# Altium footprint library Diode.PcbLib: 10 footprints
Each footprint in its own frame and in the unit in brackets; x right, y up, seen from the top. Pads: shape width x height; smd on the part's side, far side on the other; paste and mask are expansions set on the pad; w line width, h text height; cw(c..) or ccw(c..) is an arc to the next point about the centre after c.
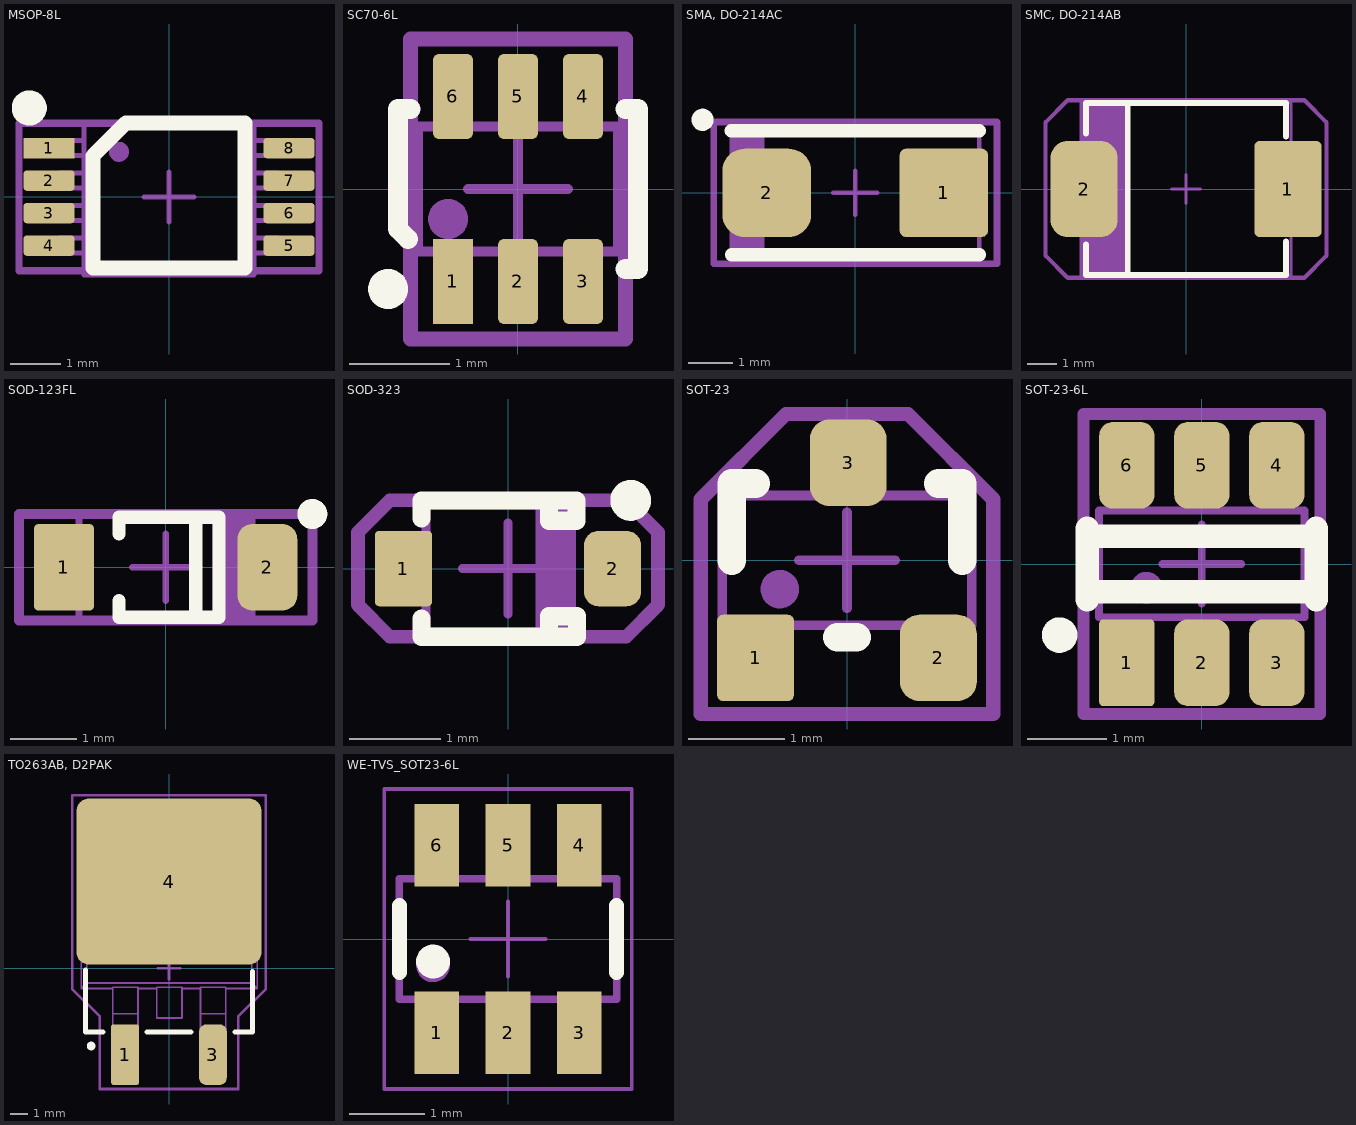
[diagram p0: the footprints below, top view; thin cyan lines are the x and y axes]

## MSOP-8L [mm] "MSOP-8L, 8-Leads, Body 5x3mm, Pitch 0.5mm"
height 0.975
pads (8):
  rect 1.016x0.406 smd: 1(-2.4,0.975)
  rrect30% 1.016x0.406 smd: 2(-2.4,0.325) 3(-2.4,-0.325) 4(-2.4,-0.975) 5(2.4,-0.975) 6(2.4,-0.325) 7(2.4,0.325) 8(2.4,0.975)
Top Overlay:
  circle w0.5: c-2.794,1.778 r0.1
  lines w0.3: -1.524,-1.425 -1.524,0.815 -0.864,1.475 1.524,1.475 1.524,-1.425 -1.524,-1.425
Mechanical 13:
  circle w0.2: c-1,0.9 r0.1
  lines w0.1: -1.7,-1.125 -2.175,-1.125 -2.175,-0.825 -1.7,-0.825 ; -1.7,-0.475 -2.175,-0.475 -2.175,-0.175 -1.7,-0.175 ; -1.7,0.175 -2.175,0.175 -2.175,0.475 -1.7,0.475 ; -1.7,0.825 -2.175,0.825 -2.175,1.125 -1.7,1.125 ; 1.7,-1.125 2.175,-1.125 2.175,-0.825 1.7,-0.825 ; 1.7,-0.475 2.175,-0.475 2.175,-0.175 1.7,-0.175 ; 1.7,0.175 2.175,0.175 2.175,0.475 1.7,0.475 ; 1.7,0.825 2.175,0.825 2.175,1.125 1.7,1.125 ; -1.7,-1.564 -1.7,1.475 1.7,1.475 1.7,-1.564 -1.7,-1.564
Mechanical 15:
  lines w0.1: -0.5,0 0.5,0 ; 0,-0.5 0,0.5
  lines w0.15: -3,-1.475 -3,1.475 3,1.475 3,-1.475 -3,-1.475
Mechanical 17:
  text ".Designator" at -0.346,-0.162 h1
3D body "WE-TVS_Super_Speed_MSOP-8L.stp": height 0.94, standoff -0.04, extent -2.45,-1.5 2.45,1.5

## SC70-6L [mm] "TVS Diode, package SC70-6L"
height 1.1
pads (6):
  rect 0.4x0.85 smd: 1(-0.65,-0.925)
  rrect30% 0.4x0.85 smd: 2(0,-0.925) 3(0.65,-0.925) 4(0.65,0.925) 5(0,0.925) 6(-0.65,0.925)
Top Overlay:
  circle w0.2: c-1.3,-1 r0.1
  lines w0.2: -1.075,0.8 -1.2,0.8 -1.2,-0.4 -1.1,-0.5 ; 1.075,-0.8 1.2,-0.8 1.2,0.8 1.075,0.8 ; -1.1,-0.5 -1.1,-0.5
Mechanical 13:
  circle w0.2: c-0.7,-0.3 r0.1
  lines w0.1: -0.8,-0.625 -0.8,-1.1 -0.5,-1.1 -0.5,-0.625 ; -0.8,0.625 -0.8,1.1 -0.5,1.1 -0.5,0.625 ; -0.15,-0.625 -0.15,-1.1 0.15,-1.1 0.15,-0.625 ; -0.15,0.625 -0.15,1.1 0.15,1.1 0.15,0.625 ; 0.5,-0.625 0.5,-1.1 0.8,-1.1 0.8,-0.625 ; 0.5,0.625 0.5,1.1 0.8,1.1 0.8,0.625 ; -1,-0.625 1,-0.625 1,0.625 -1,0.625 -1,-0.625
Mechanical 15:
  lines w0.1: -0.5,0 0.5,0 ; 0,-0.5 0,0.5
  lines w0.15: -1.075,-1.5 1.075,-1.5 1.075,1.5 -1.075,1.5 -1.075,-1.5
Mechanical 17:
  text ".Designator" at -0.346,-0.162 h1
3D body "STEP-WE-TVS-HS-SC70-6L-rev1.stp": height 1, standoff 0, extent -1,-1.1 1,1.1

## SMA, DO-214AC [mm] "Case 403D-02"
height 2.41
pads (2):
  rrect15% 2x2 smd: 1(2,0)
  rrect50% 2x2 smd: 2(-2,0)
Top Overlay:
  circle w0.25: c-3.45,1.65 r0.125
  lines w0.3: -2.8,1.4 2.8,1.4 ; -2.795,-1.4 2.805,-1.4
Mechanical 13:
  rectangle: -2.797,-1.461 -2.045,1.459
  lines w0.1: -2.795,-1.46 2.795,-1.46 2.795,1.46 -2.795,1.46 -2.795,-1.46
Mechanical 15:
  lines w0.1: -0.5,0 0.5,0 ; 0,-0.5 0,0.5
  lines w0.15: -3.2,-1.6 3.2,-1.6 3.2,1.6 -3.2,1.6 -3.2,-1.6
Mechanical 17:
  text ".Designator" at -0.346,-0.162 h1
3D body "DO-214-SMA.step": height 2.4, standoff 0, extent -2.6,-1.295 2.6,1.305

## SMC, DO-214AB [mm] "WE-TVSP Power TVS Diode, DO-214AB, Unidirectional"
height 2.5
pads (2):
  rrect15% 2.3x3.3 smd: 1(3.5,0)
  rrect50% 2.3x3.3 smd: 2(-3.5,0)
Top Overlay:
  lines w0.2: -3.43,-1.9 -3.43,-2.95 3.43,-2.95 3.43,-1.8 ; -3.43,1.9 -3.43,2.95 3.43,2.95 3.43,1.8 ; -2,-2.95 -2,2.95
Mechanical 13:
  rectangle: -3.602,-2.95 -2,2.949
  lines w0.1: -3.6,-2.95 -3.6,2.95 3.6,2.95 3.6,-2.95 -3.6,-2.95
Mechanical 15:
  lines w0.1: -0.5,0 0.5,0 ; 0,-0.5 0,0.5
  lines w0.15: -4.826,-2.286 -4.064,-3.048 4.064,-3.048 4.826,-2.286 4.826,2.286 4.064,3.048 -4.064,3.048 -4.826,2.286 -4.826,-2.286
Mechanical 17:
  text ".Designator" at -0.346,-0.162 h1.5
3D body "DO-214AB_Unidirectional.stp": height 2.5, standoff 0.01, extent -3.97,-2.952 3.97,2.953

## SOD-123FL [mm] "SOD-123FL"
height 0.8
pads (2):
  rrect15% 0.9x1.3 smd: 1(-1.525,0)
  rrect50% 0.9x1.3 smd: 2(1.525,0)
Top Overlay:
  circle w0.25: c2.2,0.8 r0.1
  lines w0.2: -0.7,-0.5 -0.7,-0.75 0.8,-0.75 0.8,0.75 -0.7,0.75 -0.7,0.5 ; 0.45,-0.75 0.45,0.75
Mechanical 13:
  region: 1.302,0.8 0.7,0.8 0.7,-0.799 1.302,-0.799
  lines w0.1: -1.3,-0.8 -1.3,0.8 1.3,0.8 1.3,-0.8 -1.3,-0.8
Mechanical 15:
  lines w0.1: -0.5,0 0.5,0 ; 0,-0.5 0,0.5
  lines w0.15: -2.2,-0.8 2.2,-0.8 2.2,0.8 -2.2,0.8 -2.2,-0.8
Mechanical 17:
  text ".Designator" at -0.346,-0.162 h1
3D body "SOD-123FL Case498.step": height 0.95, standoff 0, extent -1.8,-0.825 1.8,0.825

## SOD-323 [mm] "SOD-323/SC-76; 2 Leads; Body 1.7 x 1.3 mm, (LxW)"
height 1.2
pads (2):
  rrect15% 0.63x0.83 smd: 1(-1.15,0)
  rrect50% 0.63x0.83 smd: 2(1.15,0)
Top Overlay:
  circle w0.25: c1.35,0.75 r0.1
  lines w0.2: -0.95,-0.55 -0.95,-0.75 0.761,-0.75 0.761,-0.525 0.45,-0.525 0.45,-0.75 ; -0.95,0.55 -0.95,0.75 0.754,0.75 0.754,0.525 0.45,0.525 0.45,0.75
Mechanical 13:
  region: 0.702,0.7 0.3,0.7 0.3,-0.699 0.702,-0.699
  lines w0.1: -0.9,-0.7 0.7,-0.7 0.7,0.7 -0.9,0.7 -0.9,-0.7
Mechanical 15:
  lines w0.1: -0.5,0 0.5,0 ; 0,-0.5 0,0.5
  lines w0.15: -1.65,-0.4 -1.3,-0.75 1.3,-0.75 1.65,-0.4 1.65,0.4 1.3,0.75 -1.3,0.75 -1.65,0.4 -1.65,-0.4
Mechanical 17:
  text ".Designator" at -0.346,-0.162 h1
3D body "SOD-323.step": height 1.1, standoff 0, extent -1.35,-0.625 1.35,0.625

## SOT-23 [mm]
height 1.2
pads (3):
  rrect15% 0.8x0.9 smd: 1(-0.953,-1.016)
  rrect50% 0.8x0.9 smd: 2(0.953,-1.016) 3(0.013,1.016)
Top Overlay:
  lines w0.3: -1.2,0 -1.2,0.8 -0.953,0.8 ; -0.1,-0.8 0.1,-0.8 ; 0.953,0.8 1.2,0.8 1.2,0
Mechanical 13:
  circle w0.2: c-0.7,-0.3 r0.1
  lines w0.1: -1.1,-0.675 -1.1,-1.125 -0.8,-1.125 -0.8,-0.675 ; -0.1,0.675 -0.1,1.126 0.2,1.126 0.2,0.675 ; 0.8,-0.675 0.8,-1.125 1.1,-1.125 1.1,-0.675 ; -1.3,-0.675 1.3,-0.675 1.3,0.675 -1.3,0.675 -1.3,-0.675
Mechanical 15:
  lines w0.1: -0.5,0 0.5,0 ; 0,-0.5 0,0.5
  lines w0.15: -1.524,-1.6 -1.524,0.635 -0.635,1.524 0.635,1.524 1.524,0.635 1.524,-1.6 -1.524,-1.6
Mechanical 17:
  text ".Designator" at -0.346,-0.162 h1
3D body "sot23.STEP": height 1.22, standoff 0, extent -1.5,-1.125 1.5,1.126

## SOT-23-6L [mm]
height 1.2
pads (6):
  rrect15% 0.7x1.1 smd: 1(-0.95,-1.25)
  rrect50% 0.7x1.1 smd: 2(0,-1.25) 3(0.95,-1.25) 4(0.95,1.25) 5(0,1.25) 6(-0.95,1.25)
Top Overlay:
  circle w0.25: c-1.8,-0.9 r0.1
  lines w0.3: -1.45,-0.45 -1.45,0.45 ; -1.45,-0.35 1.45,-0.35 ; -1.45,0.35 1.45,0.35 ; 1.45,-0.45 1.45,0.45
Mechanical 13:
  circle w0.2: c-0.7,-0.3 r0.1
  lines w0.1: -1.1,-0.675 -1.1,-1.125 -0.8,-1.125 -0.8,-0.675 ; -1.1,0.675 -1.1,1.125 -0.8,1.125 -0.8,0.675 ; -0.2,-0.675 -0.2,-1.126 0.1,-1.126 0.1,-0.675 ; -0.1,0.675 -0.1,1.126 0.2,1.126 0.2,0.675 ; 0.8,-0.675 0.8,-1.125 1.1,-1.125 1.1,-0.675 ; 0.8,0.675 0.8,1.125 1.1,1.125 1.1,0.675 ; -1.3,-0.675 -1.3,0.675 1.3,0.675 1.3,-0.675 -1.3,-0.675
Mechanical 15:
  lines w0.1: -0.5,0 0.5,0 ; 0,-0.5 0,0.5
  lines w0.15: -1.5,-1.9 -1.5,1.9 1.5,1.9 1.5,-1.9 -1.5,-1.9
Mechanical 17:
  text ".Designator" at -0.346,-0.162 h1
3D body "STEP-WE-TVS-SS-SOT23-6L-rev1.stp": height 1.16, standoff 0, extent -1.45,-1.4 1.45,1.4

## TO263AB, D2PAK [mm]
height 4.8
pads (3):
  rrect15% 1.6x3.5 smd: 1(-2.54,-5)
  rrect50% 1.6x3.5 smd: 3(2.54,-5)
  rrect15% 10.7x9.6 smd: 4(0,5)
Top Overlay:
  circle w0.25: c-4.5,-4.5 r0.125
  lines w0.3: -4.826,-0.1 -4.826,-3.683 -3.81,-3.683 ; -1.27,-3.683 1.27,-3.683 ; 3.81,-3.683 4.826,-3.683 4.826,-0.2
Mechanical 13:
  circle w0.2: c-4.5,-4.5 r0.1
  lines w0.1: -5.065,-1.173 -3.255,-1.173 -5.065,-1.173 ; -5.065,-1.173 -5.065,7.842 ; -5.065,-1.173 -4.751,-0.859 ; -5.065,-1.173 -5.065,7.842 ; -5.065,-1.173 -4.751,-0.859 ; -5.065,7.842 -4.935,7.972 ; -5.065,7.842 -4.751,7.528 ; -5.065,7.842 -4.935,7.972 ; -5.065,7.842 -4.751,7.528 ; -4.935,7.972 -4.935,8.316 ; -4.935,7.972 4.965,7.972 ; -4.935,7.972 -4.935,8.316 ; -4.935,7.972 4.965,7.972 ; -4.935,8.316 -3.435,9.182 ; -4.935,8.316 -3.435,9.182 ; -4.751,-0.859 4.781,-0.859 ; -4.751,-0.859 -4.751,7.528 ; -4.751,-0.859 4.781,-0.859 ; -4.751,-0.859 -4.751,7.528 ; -4.751,7.528 4.781,7.528 ; -4.751,7.528 4.781,7.528 ; -3.435,9.182 3.465,9.182 ; -3.435,9.182 3.465,9.182 ; -3.255,-3.716 -3.255,-3.4 ; -3.255,-3.716 -2.9,-3.716 ; -3.255,-3.716 -3.255,-3.4 ; -3.255,-3.716 -2.9,-3.716 ; -3.255,-3.4 -1.795,-3.4 ; -3.255,-3.4 -3.255,-2.639 ; -3.255,-3.4 -1.795,-3.4 ; -3.255,-3.4 -3.255,-2.639 ; -3.255,-2.639 -1.795,-2.639 ; -3.255,-2.639 -3.255,-1.103 ; -3.255,-2.639 -1.795,-2.639 ; -3.255,-2.639 -3.255,-1.103 ; -3.255,-1.103 -1.795,-1.103 ; -3.255,-1.103 -1.795,-1.103 ; -2.9,-6.082 -2.9,-6.045 ; -2.9,-6.082 -2.15,-6.082 ; -2.9,-6.082 -2.9,-6.045 ; -2.9,-6.082 -2.15,-6.082 ; -2.9,-6.045 -2.9,-4.305 ; -2.9,-6.045 -2.15,-6.045 ; -2.9,-6.045 -2.9,-4.305 ; -2.9,-6.045 -2.15,-6.045 ; -2.9,-4.305 -2.15,-4.305 ; -2.9,-4.305 -2.9,-4.032 ; -2.9,-4.305 -2.15,-4.305 ; -2.9,-4.305 -2.9,-4.032 ; -2.9,-4.032 -2.15,-4.032 ; -2.9,-4.032 -2.9,-3.716 ; -2.9,-4.032 -2.15,-4.032 ; -2.9,-4.032 -2.9,-3.716 ; -2.15,-6.082 -2.15,-6.045 ; -2.15,-6.082 -2.15,-6.045 ; -2.15,-6.045 -2.15,-4.305 ; -2.15,-6.045 -2.15,-4.305 ; -2.15,-4.305 -2.15,-4.032 ; -2.15,-4.305 -2.15,-4.032 ; -2.15,-4.032 -2.15,-3.716 ; -2.15,-4.032 -2.15,-3.716 ; -2.15,-3.716 -1.795,-3.716 ; -2.15,-3.716 -1.795,-3.716 ; -1.795,-3.716 -1.795,-3.4 ; -1.795,-3.716 -1.795,-3.4 ; -1.795,-3.4 -1.795,-2.639 ; -1.795,-3.4 -1.795,-2.639 ; -1.795,-2.639 -1.795,-1.103 ; -1.795,-2.639 -1.795,-1.103 ; -0.715,-2.883 -0.715,-1.103 ; -0.715,-2.883 0.745,-2.883 ; -0.715,-2.883 -0.715,-1.103 ; -0.715,-2.883 0.745,-2.883 ; -0.715,-1.103 0.745,-1.103 ; -0.715,-1.103 0.745,-1.103 ; 0.745,-2.883 0.745,-1.103 ; 0.745,-2.883 0.745,-1.103 ; 1.825,-3.716 1.825,-3.4 ; 1.825,-3.716 2.18,-3.716 ; 1.825,-3.716 1.825,-3.4 ; 1.825,-3.716 2.18,-3.716 ; 1.825,-3.4 3.285,-3.4 ; 1.825,-3.4 1.825,-2.639 ; 1.825,-3.4 3.285,-3.4 ; 1.825,-3.4 1.825,-2.639 ; 1.825,-2.639 3.285,-2.639 ; 1.825,-2.639 1.825,-1.103 ; 1.825,-2.639 3.285,-2.639 ; 1.825,-2.639 1.825,-1.103 ; 1.825,-1.103 3.285,-1.103 ; 1.825,-1.103 3.285,-1.103 ; 2.18,-6.082 2.18,-6.045 ; 2.18,-6.082 2.93,-6.082 ; 2.18,-6.082 2.18,-6.045 ; 2.18,-6.082 2.93,-6.082 ; 2.18,-6.045 2.18,-4.305 ; 2.18,-6.045 2.93,-6.045 ; 2.18,-6.045 2.18,-4.305 ; 2.18,-6.045 2.93,-6.045 ; 2.18,-4.305 2.93,-4.305 ; 2.18,-4.305 2.18,-4.032 ; 2.18,-4.305 2.93,-4.305 ; 2.18,-4.305 2.18,-4.032 ; 2.18,-4.032 2.93,-4.032 ; 2.18,-4.032 2.18,-3.716 ; 2.18,-4.032 2.93,-4.032 ; 2.18,-4.032 2.18,-3.716 ; 2.93,-6.082 2.93,-6.045 ; 2.93,-6.082 2.93,-6.045 ; 2.93,-6.045 2.93,-4.305 ; 2.93,-6.045 2.93,-4.305 ; 2.93,-4.305 2.93,-4.032 ; 2.93,-4.305 2.93,-4.032 ; 2.93,-4.032 2.93,-3.716 ; 2.93,-4.032 2.93,-3.716 ; 2.93,-3.716 3.285,-3.716 ; 2.93,-3.716 3.285,-3.716 ; 3.285,-3.716 3.285,-3.4 ; 3.285,-3.716 3.285,-3.4 ; 3.285,-3.4 3.285,-2.639 ; 3.285,-3.4 3.285,-2.639 ; 3.285,-2.639 3.285,-1.103 ; 3.285,-2.639 3.285,-1.103 ; 3.465,9.182 4.965,8.316 ; 3.465,9.182 4.965,8.316 ; 4.781,-0.859 4.781,7.528 ; 4.781,-0.859 5.095,-1.173 ; 4.781,-0.859 4.781,7.528 ; 4.781,-0.859 5.095,-1.173 ; 4.781,7.528 5.095,7.842 ; 4.781,7.528 5.095,7.842 ; 4.965,7.972 4.965,8.316 ; 4.965,7.972 5.095,7.842 ; 4.965,7.972 4.965,8.316 ; 4.965,7.972 5.095,7.842 ; 5.095,-1.173 3.285,-1.173 5.095,-1.173 ; 5.095,-1.173 5.095,7.842 ; 5.095,-1.173 5.095,7.842 ; -1.795,-1.173 -0.715,-1.173 -1.795,-1.173 ; 0.745,-1.173 1.825,-1.173 0.745,-1.173
Mechanical 15:
  lines w0.15: -0.635,0 0.635,0 ; 0,-0.635 0,0.635 ; -5.6,-1.2 -4,-2.8 -4,-6.985 4,-6.985 4,-2.8 5.6,-1.2 5.6,10 -5.6,10 -5.6,-1.2
Mechanical 17:
  text ".Designator" at -0.346,-0.162 h1.5
3D body "to-263.STEP": height 4.3, standoff 0, extent -5.047,-6.635 4.953,9.245

## WE-TVS_SOT23-6L [mm] "TVS Diode, package SOT23-6L"
height 1.2
pads (6):
  rect 0.6x1.1 smd: 1(-0.95,-1.25) 2(0,-1.25) 3(0.95,-1.25) 4(0.95,1.25) 5(0,1.25) 6(-0.95,1.25)
Top Overlay:
  circle w0.25: c-1,-0.3 r0.1
  lines w0.2: -1.45,-0.45 -1.45,0.45 ; 1.45,-0.45 1.45,0.45
Mechanical 13:
  circle w0.25: c-1,-0.35 r0.1
  lines w0.1: -1.15,-0.8 -1.15,-1.4 -0.75,-1.4 -0.75,-0.8 ; -1.15,0.8 -1.15,1.4 -0.75,1.4 -0.75,0.8 ; -0.2,-0.8 -0.2,-1.4 0.2,-1.4 0.2,-0.8 ; -0.2,0.8 -0.2,1.4 0.2,1.4 0.2,0.8 ; 0.75,-0.8 0.75,-1.4 1.15,-1.4 1.15,-0.8 ; 0.75,0.8 0.75,1.4 1.15,1.4 1.15,0.8 ; -1.45,-0.8 -1.45,0.8 1.45,0.8 1.45,-0.8 -1.45,-0.8
Mechanical 15:
  lines w0.05: -0.5,0 0.5,0 ; 0,-0.5 0,0.5 ; -1.65,-2 1.65,-2 1.65,2 -1.65,2 -1.65,-2
3D body "STEP-WE-TVS-SS-SOT23-6L-rev1.stp": height 1.16, standoff 0, extent -1.45,-1.4 1.45,1.4